# Altium schematic symbol library MLX90393_demo.SchLib: 4 symbols
Pins are listed as number, name and electrical type; pins without a type are passive.

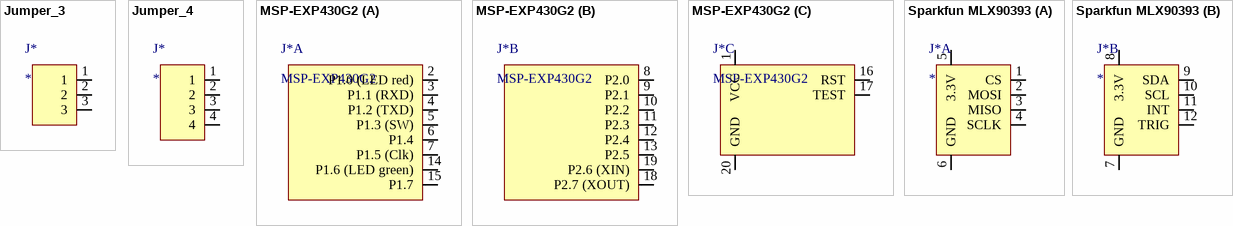
[diagram p0: symbols Jumper_3 to Sparkfun MLX90393]

## Jumper_3
designator J*
footprint Jumper_3
pins: 1, 2, 3

## Jumper_4
designator J*
footprint Jumper_4
pins: 1, 2, 3, 4

## MSP-EXP430G2
designator J*
footprint MSP-EXP430G2
part A pins: 2 P1.0 (LED red), 3 P1.1 (RXD), 4 P1.2 (TXD), 5 P1.3 (SW), 6 P1.4, 7 P1.5 (Clk), 14 P1.6 (LED green), 15 P1.7
part B pins: 8 P2.0, 9 P2.1, 10 P2.2, 11 P2.3, 12 P2.4, 13 P2.5, 18 P2.7 (XOUT), 19 P2.6 (XIN)
part C pins: 1 VCC, 16 RST, 17 TEST, 20 GND

## Sparkfun MLX90393
designator J*
footprint Sparkfun MLX90393
part A pins: 1 CS, 2 MOSI, 3 MISO, 4 SCLK, 5 3.3V, 6 GND
part B pins: 7 GND, 8 3.3V, 9 SDA, 10 SCL, 11 INT, 12 TRIG